# EAGLE library part DS2740 (library aoba)
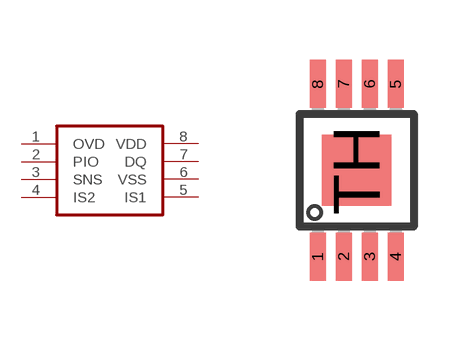
[diagram p7: symbol with the pads of UMAX; footprint UMAX]

Designator prefix -

## DS2740  [UMAX]
1  OVD
2  PIO
3  SNS
4  IS2
5  IS1
6  VSS
7  DQ
8  VDD

## Footprint UMAX (pad centres in mm)
smd 0.4 x 1.2: 1 -1.085,-2.172; 2 -0.435,-2.172; 3 0.215,-2.172; 4 0.865,-2.172; 5 0.865,2.142; 6 0.215,2.142; 7 -0.435,2.142; 8 -1.085,2.142
smd 1.73 x 1.78: TH -0.11,-0.015